# Altium footprint library NT-0.75mm.PcbLib: 1 footprints
Each footprint in its own frame and in the unit in brackets; x right, y up, seen from the top. Pads: shape width x height; smd on the part's side, far side on the other; paste and mask are expansions set on the pad; w line width, h text height; cw(c..) or ccw(c..) is an arc to the next point about the centre after c.
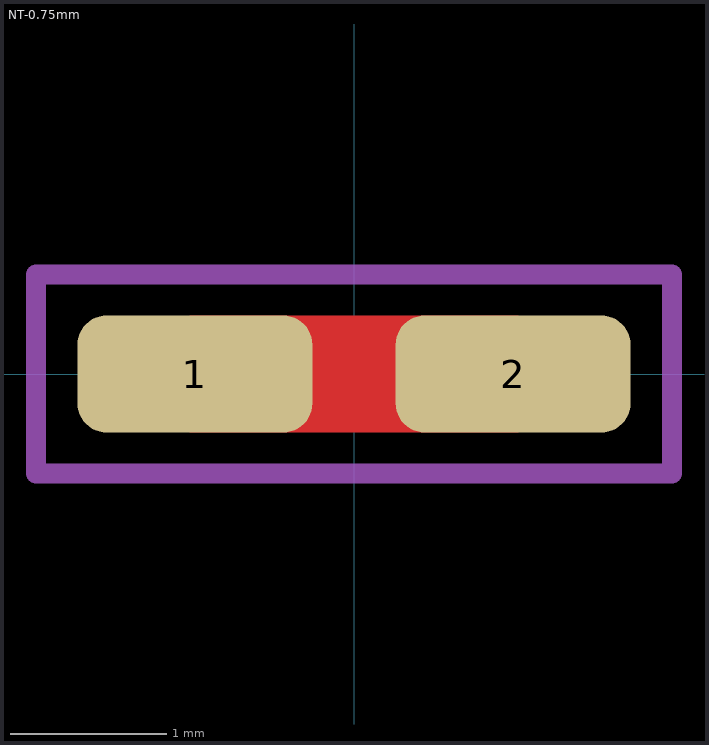
[diagram p0: the footprint, top view; thin cyan lines are the x and y axes]

## NT-0.75mm [mm] "NetTie 0.75mm"
pads (2):
  rrect50% 1.5x0.75 smd: 1(-1.016,0) 2(1.016,0)
Top Layer:
  lines w0.75: -1.016,0 1.016,0
Mechanical 13:
  lines w0.127: -2.032,-0.635 2.032,-0.635 2.032,0.635 -2.032,0.635 -2.032,-0.635
Mechanical 15:
  lines w0.127: -0.254,-0.005 0.254,-0.005 ; 0,-0.259 0,0.249 ; -2.032,-0.635 -2.032,0.635 2.032,0.635 2.032,-0.635 -2.032,-0.635
Mechanical 17:
  text "'.Designator'" at -1.143,-0.127 h0.2